# EAGLE library part 6861XX188822_686126188822 (library 68611414422)
WR-FPC 1.00 mm SMT LIF Vertical Type A KIND PROPERTIES Pitch 1 mm MATERIAL PROPERTIES Insulator Material LCP Contact Material Phosphor Bronze Contact Plating 2.032µm Tin over 1.27µm Nickel Contact Type Stamped <https://www.we-online.com/catalog/media/o162364v209%20Family_ConFPC_686126188822.jpg> Details see: https://www.we-online.com/catalog/en/em/FPC_1_00_SMT_LIF_VERTICAL_6861xx188822 Updated by Ella Wu 2020-08-25 2020(C) Wurth Elektronik
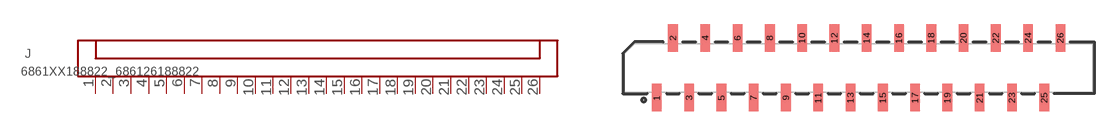
[diagram p131: symbol with the pads of 686126188822; footprint 686126188822]

Designator prefix J

## 6861XX188822_686126188822 (CONTACT-RESISTANCE: 30mOhm; DATASHEET-URL: https://www.we-online.com/catalog/datasheet/686126188822.pdf; IR: 1A; L: 29mm; PACKAGING: Tape and Reel & Mylar; PART-NUMBER: 686126188822; PINS: 26; PITCH: 1mm; TYPE: Vertical; VALUE: 686126188822; WORKING-VOLTAGE: 125V(AC))  [686126188822]
1  1  pas
2  2  pas
3  3  pas
4  4  pas
5  5  pas
6  6  pas
7  7  pas
8  8  pas
9  9  pas
10  10  pas
11  11  pas
12  12  pas
13  13  pas
14  14  pas
15  15  pas
16  16  pas
17  17  pas
18  18  pas
19  19  pas
20  20  pas
21  21  pas
22  22  pas
23  23  pas
24  24  pas
25  25  pas
26  26  pas

## Footprint 686126188822 (pad centres in mm)
WR-FPC 1.00 mm SMT LIF Vertical Type A,26Pins
smd 0.6 x 1.7: 1 -12.5,-1.85; 2 -11.5,1.85; 3 -10.5,-1.85; 4 -9.5,1.85; 5 -8.5,-1.85; 6 -7.5,1.85; 7 -6.5,-1.85; 8 -5.5,1.85; 9 -4.5,-1.85; 10 -3.5,1.85; 11 -2.5,-1.85; 12 -1.5,1.85; 13 -0.5,-1.85; 14 0.5,1.85; 15 1.5,-1.85; 16 2.5,1.85; 17 3.5,-1.85; 18 4.5,1.85; 19 5.5,-1.85; 20 6.5,1.85; 21 7.5,-1.85; 22 8.5,1.85; 23 9.5,-1.85; 24 10.5,1.85; 25 11.5,-1.85; 26 12.5,1.85